# Altium footprint library KasengLib.PcbLib: 31 footprints (part 2 of 2)
Each footprint in its own frame and in the unit in brackets; x right, y up, seen from the top. Pads: shape width x height; smd on the part's side, far side on the other; paste and mask are expansions set on the pad; w line width, h text height; cw(c..) or ccw(c..) is an arc to the next point about the centre after c.
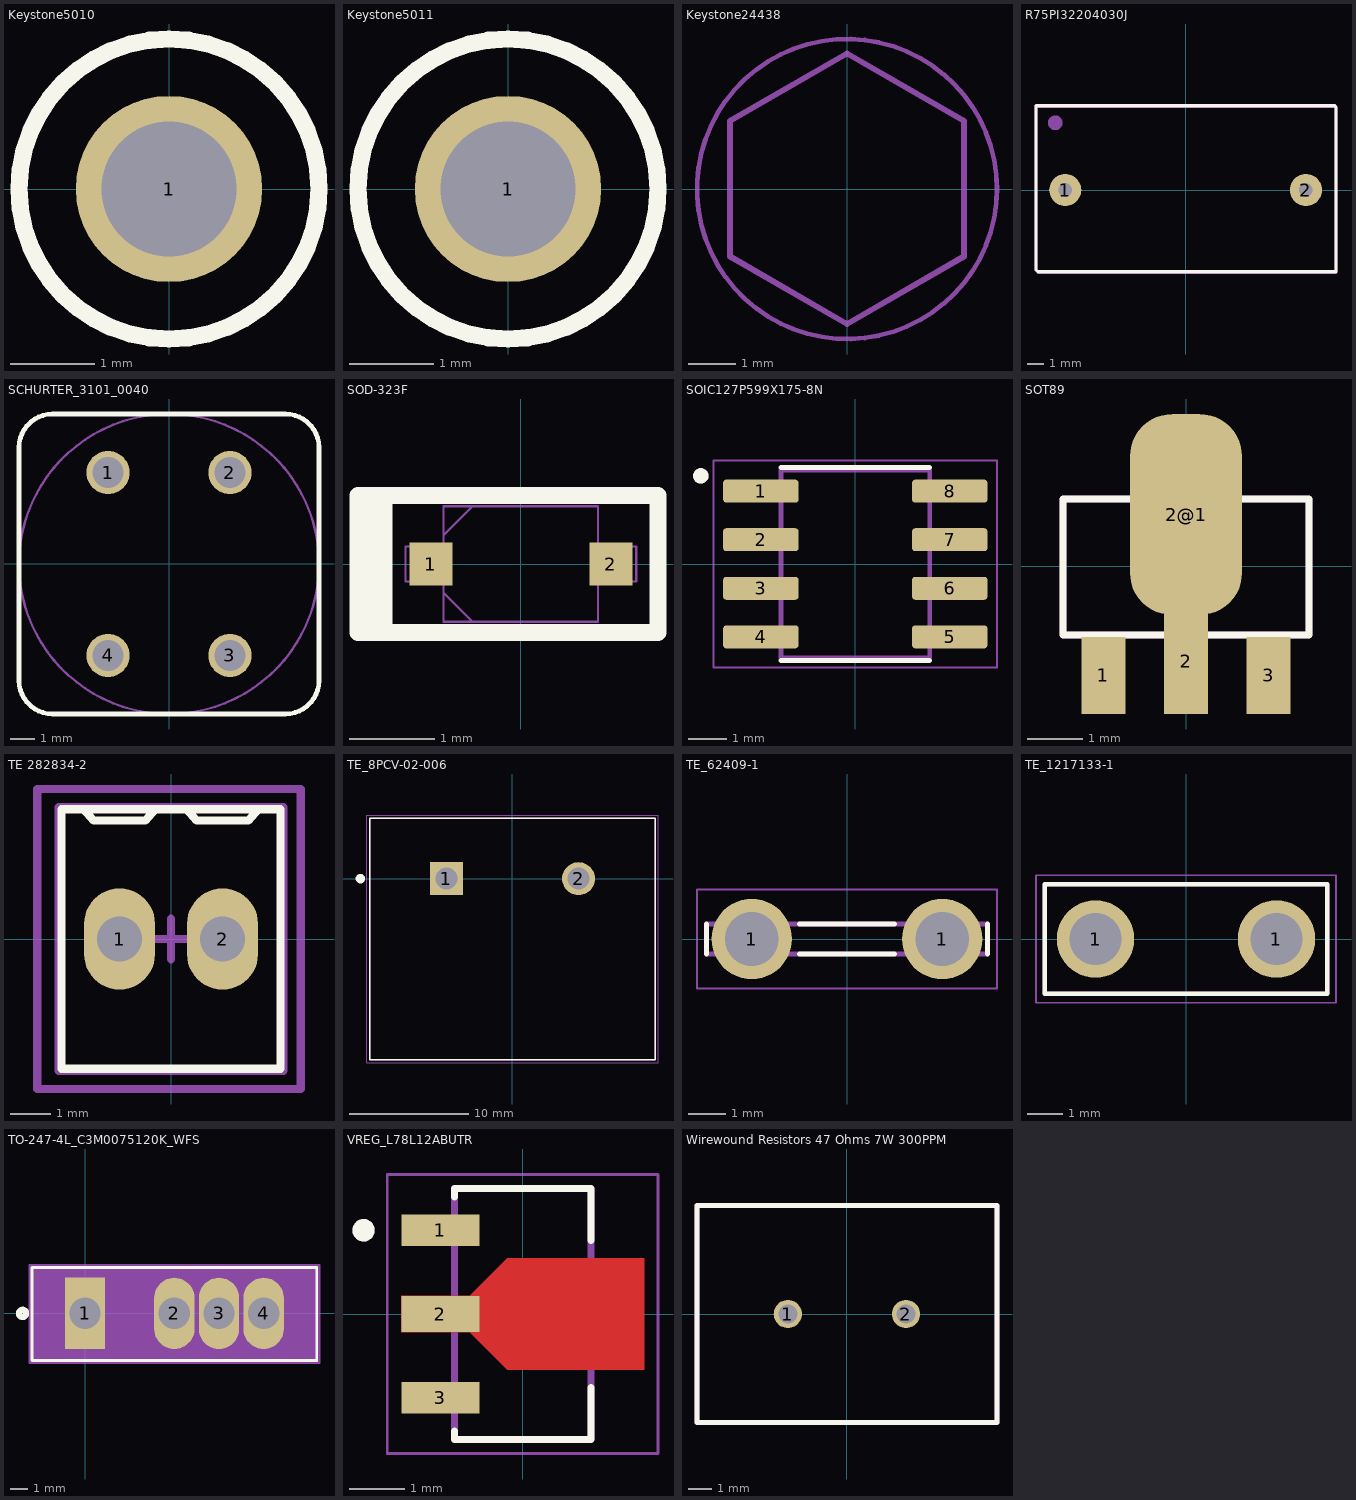
[diagram p1: the footprints below, top view; thin cyan lines are the x and y axes]

## Keystone5010 [mil]
pads (1):
  round 87 hole 63: 1(0,0)
Top Overlay:
  circle w7.99: c0,0 r70
Mechanical 5:
  circle w5: c0,0 r69.46
  text ".Designator" at -55,-10 h30
3D body "Keystone_5010.stp": height 318.9, standoff -125.98, extent -63,-63 62.74,62.49

## Keystone5011 [mil]
pads (1):
  round 87 hole 63: 1(0,0)
Top Overlay:
  circle w7.99: c0,0 r70
Mechanical 5:
  circle w5: c0,0 r69.46
  text ".Designator" at -55,-10 h30
3D body "Keystone_5011.stp": height 318.9, standoff -125.98, extent -63,-63 62.74,62.49

## Keystone24438 [mil] "Standoff, Aluminium, M3x0.5mm, L 25 mm"
height 984.25
pads (1):
  round 1 on Mech3: 0(0,0)
Mechanical 5:
  circle w3.94: c0,0 r125.98
  lines w5: -98.43,-56.57 0,-113.39 98.43,-56.57 98.43,57.09 0,113.91 -98.43,57.09 -98.43,-56.57
  text ".Designator" at -73,-16 h30
3D body "Keystone_24438.stp": height 984.25, standoff 0, extent -98.42,-113.65 98.43,113.65

## R75PI32204030J [mm] "KEMET Film capacitor"
pads (2):
  round 2 hole 0.85 paste+0 mask+0: 1(-7.5,0) 2(7.5,0)
Top Overlay:
  lines w0.2: -9.325,-4.975 -9.2,-5.1 9.375,-5.1 9.375,5.175 9.3,5.25 -9.325,5.25 -9.325,-4.975
Mechanical 13:
  circle w0.508: c-8.128,4.191 r0.203
  lines w0.2: -9.325,-5 -9.2,-5.125 9.375,-5.125 9.375,5.15 9.3,5.225 -9.325,5.225 -9.325,-5
  text "'.Designator'" at -8.35,-3.817 h0.7
3D body "R75PI32204030J_KEMET.STEP": height 16.11, standoff -34.99, extent -9.25,-5.08 9.25,5.125

## SCHURTER_3101_0040 [mm] "Fuse Holder, Body 12.5x12.5mm, TH"
height 32.6
pads (4):
  round 1.8 hole 1.3: 1(-2.54,3.81) 2(2.54,3.81) 3(2.54,-3.81) 4(-2.54,-3.81)
Top Overlay:
  lines w0.2: -6.25,-4.85 ccw(c-4.85,-4.85) -4.85,-6.25 4.85,-6.25 ccw(c4.85,-4.85) 6.25,-4.85 6.25,4.85 ccw(c4.85,4.85) 4.85,6.25 -4.85,6.25 ccw(c-4.85,4.85) -6.25,4.85 -6.25,-4.85
Mechanical 5:
  circle w0.1: c0,0 r6.25
  lines w0.1: -6.25,-4.85 ccw(c-4.85,-4.85) -4.85,-6.25 4.85,-6.25 ccw(c4.85,-4.85) 6.25,-4.85 6.25,4.85 ccw(c4.85,4.85) 4.85,6.25 -4.85,6.25 ccw(c-4.85,4.85) -6.25,4.85 -6.25,-4.85
  text ".Designator" at -2,-0.7 h1.85
Mechanical 13:
  circle w0.1: c0,0 r6.25
  lines w0.1: -6.25,-4.85 ccw(c-4.85,-4.85) -4.85,-6.25 4.85,-6.25 ccw(c4.85,-4.85) 6.25,-4.85 6.25,4.85 ccw(c4.85,4.85) 4.85,6.25 -4.85,6.25 ccw(c-4.85,4.85) -6.25,4.85 -6.25,-4.85
  text ".Designator" at -2,-0.7 h1.85
3D body "3101.0040.stp": height 32.6, standoff -5.2, extent -6.25,-6.25 6.25,6.25

## SOD-323F [mm]
pads (2):
  rect 0.5x0.5 smd: 1(-1.05,0) 2(1.05,0)
Top Overlay:
  rectangle: -1.9,-0.8 -1.5,0.8
  lines w0.2: -1.9,-0.8 1.6,-0.8 1.6,0.8 -1.9,0.8 -1.9,-0.8
Mechanical 13:
  lines w0.025: -0.902,-0.337 -0.565,-0.673 ; -0.902,0.337 -0.565,0.673 ; -1.346,-0.203 -0.902,-0.203 -0.902,0.203 -1.346,0.203 -1.346,-0.203 ; -0.902,-0.673 -0.902,0.673 0.902,0.673 0.902,-0.673 -0.902,-0.673 ; 0.902,-0.203 1.346,-0.203 1.346,0.203 0.902,0.203 0.902,-0.203
  text "'.Designator'" at -1.3,-0.367 h0.7
3D body "PMEG6010CEJ.STEP": height 0.81, standoff 0.01, extent -1.25,-0.625 1.25,0.625

## SOIC127P599X175-8N [mm]
pads (8):
  rrect25% 1.97x0.6 smd: 1(-2.47,1.905) 2(-2.47,0.635) 3(-2.47,-0.635) 4(-2.47,-1.905) 5(2.47,-1.905) 6(2.47,-0.635) 7(2.47,0.635) 8(2.47,1.905)
Top Overlay:
  circle w0.2: c-4.04,2.305 r0.1
  lines w0.127: -1.947,-2.525 1.947,-2.525 ; -1.947,2.525 1.947,2.525
Mechanical 13:
  circle w0.2: c-4.04,2.305 r0.1
  lines w0.127: -1.947,-2.452 -1.947,2.452 1.947,2.452 1.947,-2.452 -1.947,-2.452
  text "'.Designator'" at -3.583,-2.207 h0.7
Mechanical 15:
  lines w0.05: -3.705,-2.702 -3.705,2.702 3.705,2.702 3.705,-2.702 -3.705,-2.702
3D body "UCC5390ECD.STEP": height 1.76, standoff -0.4, extent -2.99,-2.451 3.112,2.451

## SOT89 [mm]
pads (4):
  rect 0.8x1.4 smd: 1(-1.499,-1.981) 3(1.499,-1.981)
  rect 0.8x1.9 smd paste-2 mask+0: 2(0,-1.727)
  rrect75% 2.032x3.65 smd: 2@1(0,0.94)
Top Overlay:
  region: -1.27,-2.108 -1.727,-2.108 -1.727,-1.27 -1.27,-1.27
  region: 1.727,-2.108 1.27,-2.108 1.27,-1.27 1.727,-1.27
  region: 0.279,-2.111 -0.28,-2.111 -0.28,-1.27 0.279,-1.27
  region: 0.787,1.575 0.787,1.295 -0.787,1.295 -0.787,1.321 -0.787,1.575 -0.356,2.007 0.356,2.007
  lines w0.127: -2.235,-1.245 2.235,-1.245 2.235,1.219 -2.235,1.219 -2.235,-1.245
  lines w0.2: -0.787,1.295 0.787,1.295 0.787,1.575 0.356,2.007 -0.356,2.007 -0.787,1.575 -0.787,1.295
Mechanical 13:
  region: -1.27,-2.108 -1.727,-2.108 -1.727,-1.27 -1.27,-1.27
  region: 1.727,-2.108 1.27,-2.108 1.27,-1.27 1.727,-1.27
  region: 0.279,-2.111 -0.28,-2.111 -0.28,-1.27 0.279,-1.27
  region: 0.787,1.575 0.787,1.295 -0.787,1.295 -0.787,1.321 -0.787,1.575 -0.356,2.007 0.356,2.007
  lines w0.127: -2.235,-1.245 2.235,-1.245 2.235,1.219 -2.235,1.219 -2.235,-1.245
  lines w0.2: -0.787,1.295 0.787,1.295 0.787,1.575 0.356,2.007 -0.356,2.007 -0.787,1.575 -0.787,1.295
  text "'.Designator'" at -1.932,-0.683 h0.7
3D body "L78L05ACU-TR.STEP": height 1.61, standoff 0.01, extent -2.25,-2.267 2.25,1.827

## TE 282834-2 [mm]
height 10
pads (2):
  oval 1.75x2.5 hole 1.1: 1(-1.27,0) 2(1.27,0)
Top Overlay:
  lines w0.2: -2.159,3.2 -1.905,2.921 -0.635,2.921 -0.381,3.2 ; 0.381,3.2 0.635,2.921 1.905,2.921 2.159,3.2 ; -2.7,-3.2 -2.7,3.2 2.7,3.2 2.7,-3.2 -2.6,-3.2 -2.7,-3.2
Mechanical 13:
  lines w0.2: -2.77,-3.25 2.77,-3.25 2.77,3.25 -2.77,3.25 -2.77,-3.25
Mechanical 15:
  lines w0.2: -0.5,0 0.5,0 ; 0,-0.5 0,0.5 ; -3.3,-3.7 -3.3,-3.3 -3.3,3.7 3.2,3.7 3.2,-2.9 3.2,-3.7 -3.3,-3.7
3D body "TE Term Block 2port 282834-2-c-3d.STEP": height 10, standoff -3.4, extent -2.77,-3.25 2.77,3.25

## TE_8PCV-02-006 [mil]
pads (2):
  rect 109.5x109.5 hole 73: 1(-219,0)
  round 109.5 hole 73: 2(219,0)
Top Overlay:
  circle w15.75: c-503.98,0 r7.87
  lines w5: -473.5,-600 473.5,-600 473.5,200 -473.5,200 -473.5,-600
Mechanical 13:
  lines w5: -473.5,-600 473.5,-600 473.5,200 -473.5,200 -473.5,-600
  text "'.Designator'" at -396.06,-484.26 h35.43
Mechanical 15:
  lines w1.97: -482.28,-609.84 482.28,-609.84 482.28,209.84 -482.28,209.84 -482.28,-609.84
3D body "block_Connector_2p_TE.stp": height 770.5, standoff -184.5, extent -474.5,-600 473.5,200

## TE_62409-1 [mm]
pads (2):
  round 2.145 hole 1.43: 1(-2.54,0) 1(2.54,0)
Top Overlay:
  lines w0.127: -3.75,-0.4 -3.75,0.4 ; -1.27,-0.4 1.27,-0.4 ; -1.27,0.4 1.27,0.4 ; 3.75,-0.4 3.75,0.4
Mechanical 13:
  lines w0.127: -3.75,-0.4 3.75,-0.4 3.75,0.4 -3.75,0.4 -3.75,-0.4
  text "'.Designator'" at -3.837,-0.87 h0.9
Mechanical 15:
  lines w0.05: -4,-1.32 4,-1.32 4,1.32 -4,1.32 -4,-1.32
3D body "Faston-62409-1--3DModel-STEP-1.STEP": height 12.64, standoff -3.16, extent -3.746,-0.4 3.747,0.4

## TE_1217133-1 [mm]
pads (2):
  round 2.175 hole 1.45: 1(-2.54,0) 1(2.54,0)
Top Overlay:
  lines w0.127: -3.96,-1.54 3.96,-1.54 3.96,1.54 -3.96,1.54 -3.96,-1.54
Mechanical 13:
  lines w0.127: -3.96,-1.54 -3.96,1.54 3.96,1.54 3.96,-1.54 -3.96,-1.54
  text "'.Designator'" at -3.86,-1.14 h0.9
Mechanical 15:
  lines w0.05: -4.21,-1.79 -4.21,1.79 4.21,1.79 4.21,-1.79 -4.21,-1.79
3D body "step_temp.STEP": height 8.9, standoff -3.54, extent -3.962,-1.537 3.962,1.537

## TO-247-4L_C3M0075120K_WFS [mm]
pads (4):
  rect 2.29x4.06 / inner rect 1.829x1.829 / far side rect 1.829x1.829 hole 1.78 mask+0: 1(0,0)
  oval 2.29x4.06 / inner round 1.575 / far side round 1.575 hole 1.78 mask+0: 2(5.08,0) 3(7.62,0) 4(10.16,0)
Top Overlay:
  circle w0.352: c-3.556,0 r0.203
  lines w0.152: -2.896,2.607 13.056,2.607 ; -3.023,-2.676 13.183,-2.676 13.183,2.607 -3.023,2.607 -3.023,-2.676
Mechanical 13:
  circle w0: c-2.642,-2.295 r0.203
  lines w0.025: -2.896,2.48 13.056,2.48 ; -2.896,2.48 13.056,2.48 ; -2.896,2.48 -2.896,-2.549 13.056,-2.549 13.056,2.48
  text "TAB" at 4.604,2.163 h0.64
  text "'.Designator'" at -2.542,-1.941 h0.76
Mechanical 15:
  region: 13.31,2.734 -3.15,2.734 -3.15,-2.803 13.31,-2.803
  lines w0.152: -3.15,-2.803 -3.15,2.734 13.31,2.734 13.31,-2.803 -3.15,-2.803
3D body: height 0.25, standoff 0, extent 0,0 0.254,0.254
3D body "TO247-4.step": height 25.13, standoff -15.79, extent -2.821,-2.549 12.981,2.451

## VREG_L78L12ABUTR [mm]
pads (3):
  rect 1.4x0.57 smd: 1(-1.475,1.5) 3(-1.475,-1.5)
  rect 1.4x0.65 smd paste-2 mask+0: 2(-1.475,0)
Top Layer:
  region: 2.175,-1 -0.275,-1 -0.95,-0.325 -2.175,-0.325 -2.175,0.325 -0.95,0.325 -0.275,1 2.175,1
Top Overlay:
  circle w0.2: c-2.85,1.5 r0.1
  lines w0.127: -1.222,-2.1 -1.222,-2.25 1.222,-2.25 1.222,-1.32 ; -1.222,2.1 -1.222,2.25 1.222,2.25 1.222,1.32
Top Paste:
  region: 1.725,-0.633 0.175,-0.633 0.175,0.633 1.725,0.633
  region: -0.95,-0.325 -2.175,-0.325 -2.175,0.325 -0.95,0.325
Top Solder:
  region: 2.275,-1.1 -0.375,-1.1 -1.05,-0.425 -2.275,-0.425 -2.275,0.425 -1.05,0.425 -0.375,1.1 2.275,1.1
Mechanical 13:
  circle w0.2: c-2.85,1.5 r0.1
  lines w0.127: -1.222,-2.25 -1.222,2.25 1.222,2.25 1.222,-2.25 -1.222,-2.25
Mechanical 15:
  lines w0.05: -2.425,-2.5 -2.425,2.5 2.425,2.5 2.425,-2.5 -2.425,-2.5
3D body "L78L05ACU-TR.STEP": height 1.61, standoff 0.01, extent -2.013,-2.25 2.082,2.25

## Wirewound Resistors 47 Ohms 7W 300PPM [mm]
pads (2):
  round 1.2 hole 0.8: 1(-2.5,0) 2(2.5,0)
Top Overlay:
  lines w0.2: -6.35,-4.597 -6.35,4.597 6.355,4.597 6.355,0 6.355,-4.597 -6.35,-4.597
Mechanical 13:
  lines w0.2: -6.35,-4.597 -6.35,4.597 6.355,4.597 6.355,0 6.355,-4.597 -6.35,-4.597
  text "'.Designator'" at -4.98,-3.477 h0.7
3D body "Cement Power Resistor SQM-07 7W R91.STEP": height 39.01, standoff -4.99, extent -6.25,-4.5 6.25,4.5